# Altium footprint library PcbLib_Acura.PcbLib: 154 footprints (part 5 of 10)
Each footprint in its own frame and in the unit in brackets; x right, y up, seen from the top. Pads: shape width x height; smd on the part's side, far side on the other; paste and mask are expansions set on the pad; w line width, h text height; cw(c..) or ccw(c..) is an arc to the next point about the centre after c.
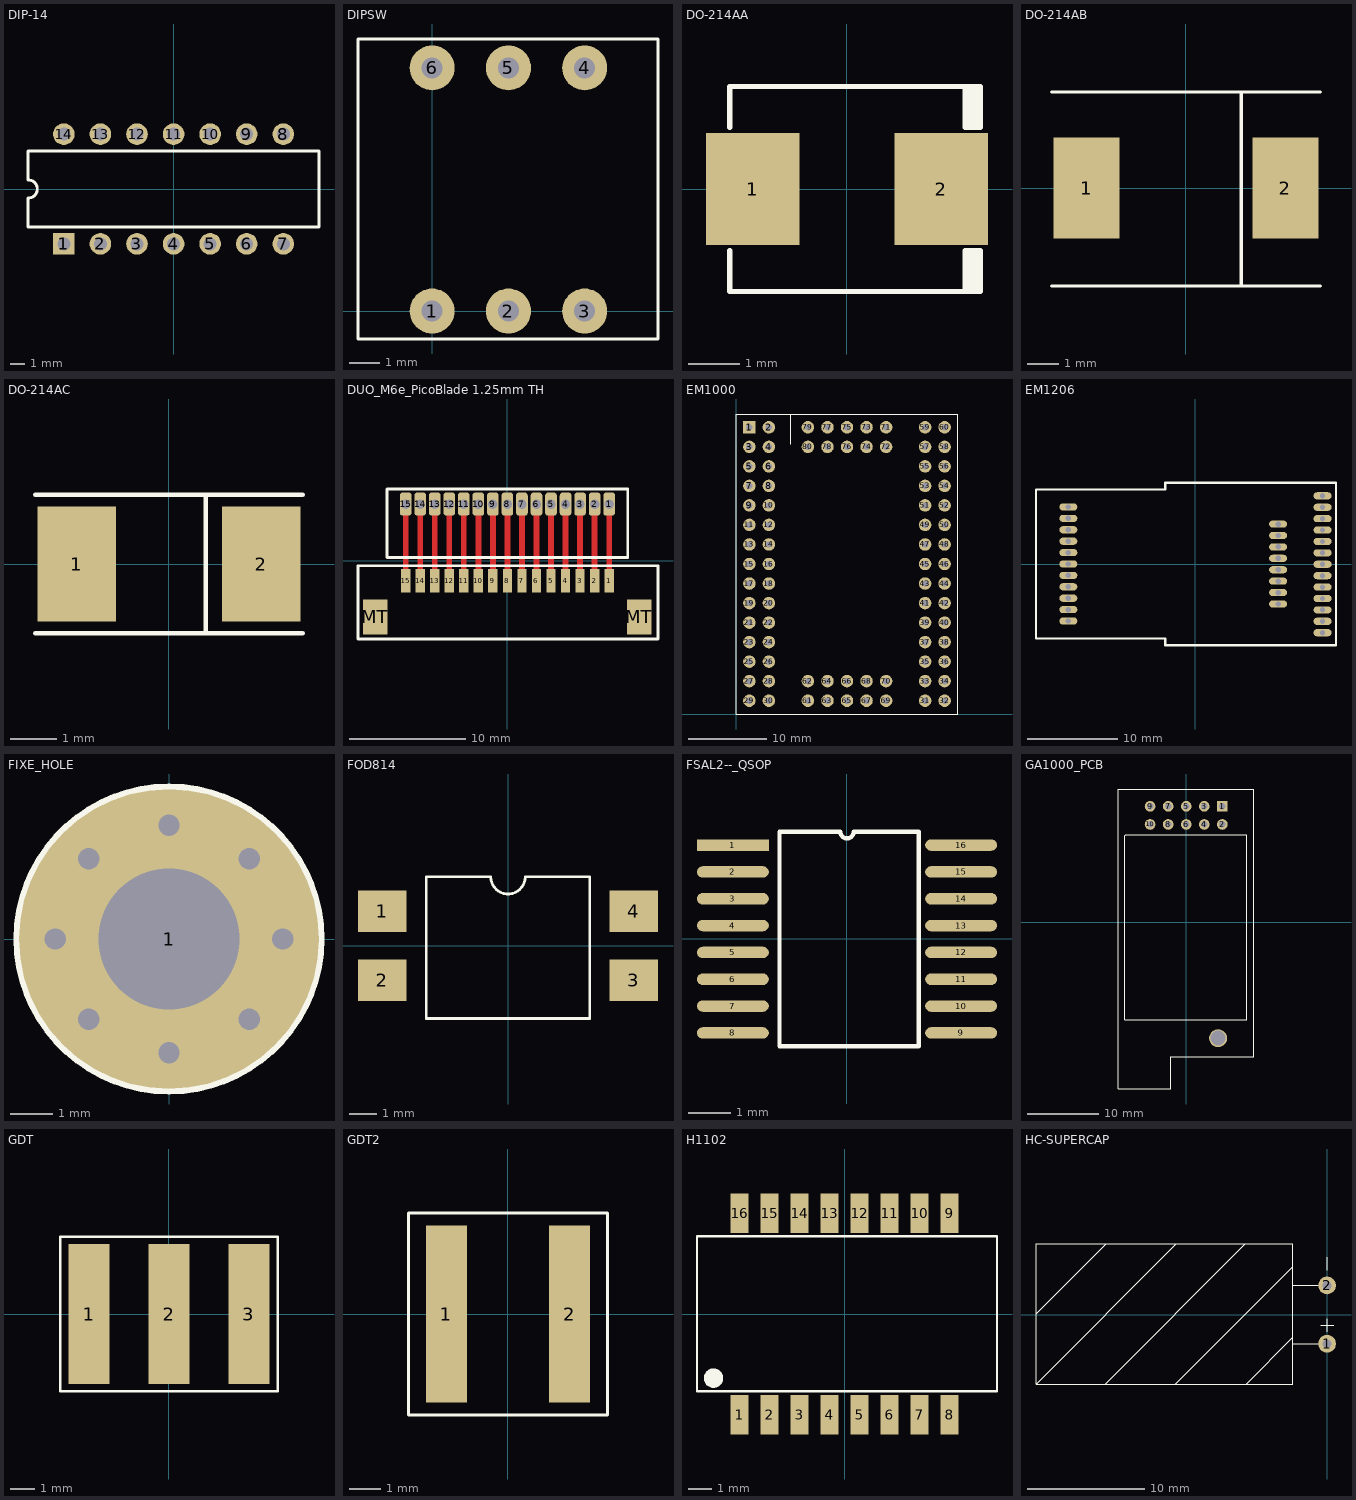
[diagram p4: the footprints below, top view; thin cyan lines are the x and y axes]

## DIP-14 [mm] "DIP; 14 Leads; Row Spacing 7.62 mm; Pitch 2.54 mm"
height 5.08
pads (14):
  rect 1.5x1.5 hole 0.9: 1(-7.62,-3.81)
  round 1.5 hole 0.9: 2(-5.08,-3.81) 3(-2.54,-3.81) 4(0,-3.81) 5(2.54,-3.81) 6(5.08,-3.81) 7(7.62,-3.81) 8(7.62,3.81) 9(5.08,3.81) 10(2.54,3.81) 11(0,3.81) 12(-2.54,3.81) 13(-5.08,3.81) 14(-7.62,3.81)
Top Overlay:
  lines w0.2: -10.1,-2.65 10.1,-2.65 10.1,2.65 -10.1,2.65 -10.1,0.635 cw(c-10.1,0) -10.1,-0.635 -10.1,-2.65

## DIPSW [mm] "Part# 3-5435640-0"
pads (6):
  round 1.5 hole 0.7: 1(0,0) 2(2.54,0) 3(5.08,0) 4(5.08,8.1) 5(2.54,8.1) 6(0,8.1)
Top Overlay:
  lines w0.1: -2.47,-0.93 7.52,-0.93 7.52,9.06 -2.47,9.06 -2.47,-0.93

## DO-214AA [mm]
pads (2):
  rect 1.82x2.18 smd: 1(-1.84,0) 2(1.84,0)
Top Overlay:
  lines w0.1: -2.29,-1.2 -2.29,-2 ; -2.29,1.2 -2.29,2 2.31,2 ; 2.41,-2 2.41,-1.2 ; 2.41,1.2 2.41,2 ; 2.51,-2 2.51,-1.2 ; 2.51,1.2 2.51,2 ; -2.29,-2 -2.29,-2 ; -2.29,-2 2.31,-2 ; 2.31,-2 2.61,-2 2.61,-1.2 2.31,-1.2 2.31,-2 ; 2.31,2 2.61,2 2.61,1.2 2.31,1.2 2.31,2

## DO-214AB [mm]
pads (2):
  rect 2.1x3.2 smd: 1(-3.15,0) 2(3.15,0)
Top Overlay:
  lines w0.1: -4.25,-3.1 4.25,-3.1 ; -4.25,3.05 4.25,3.05 ; 1.75,-3.1 1.75,3.05

## DO-214AC [mm]
pads (2):
  rect 1.7x2.5 smd: 1(-2,0) 2(2,0)
Top Overlay:
  lines w0.1: -2.9,-1.5 2.9,-1.5 ; -2.9,1.5 2.9,1.5 ; 0.8,-1.5 0.8,1.5

## DUO_M6e_PicoBlade 1.25mm TH [mm]
pads (32):
  rect 0.8x2 smd: 1(8.75,-1.75) 2(7.5,-1.75) 3(6.25,-1.75) 4(5,-1.75) 5(3.75,-1.75) 6(2.5,-1.75) 7(1.25,-1.75) 8(0,-1.75) 9(-1.25,-1.75) 10(-2.5,-1.75) 11(-3.75,-1.75) 12(-5,-1.75) 13(-6.25,-1.75) 14(-7.5,-1.75) 15(-8.75,-1.75)
  rrect50% 1x2 hole 0.8: 1(8.75,4.85) 2(7.5,4.85) 3(6.25,4.85) 4(5,4.85) 5(3.75,4.85) 6(2.5,4.85) 7(1.25,4.85) 8(0,4.85) 9(-1.25,4.85) 10(-2.5,4.85) 11(-3.75,4.85) 12(-5,4.85) 13(-6.25,4.85) 14(-7.5,4.85) 15(-8.75,4.85)
  rect 2.1x3 smd: MT(-11.35,-4.85) MT(11.35,-4.85)
Top Layer:
  lines w0.5: -8.75,-1.75 -8.75,4.85 ; -7.5,-1.75 -7.5,4.85 ; -6.25,-1.75 -6.25,4.85 ; -5,-1.75 -5,4.85 ; -3.75,-1.75 -3.75,4.85 ; -2.5,-1.75 -2.5,4.85 ; -1.25,-1.75 -1.25,4.85 ; 0,-1.75 0,4.85 ; 1.25,-1.75 1.25,4.85 ; 2.5,-1.75 2.5,4.85 ; 3.75,-1.75 3.75,4.85 ; 5,-1.75 5,4.85 ; 6.25,-1.75 6.25,4.85 ; 7.5,-1.75 7.5,4.85 ; 8.75,-1.75 8.75,4.85
Top Overlay:
  lines w0.254: -10.35,6.05 -10.35,1.45 -10.35,0.25 -9.55,0.25 10.35,0.25 10.35,6.15 -10.35,6.15 ; -12.85,-6.75 12.75,-6.75 12.95,-6.75 12.95,-0.45 -9.45,-0.45 -12.85,-0.45 -12.85,-6.75

## EM1000 [mm] "Mod Tibbo EM1000 without RJ45"
height 5.5
pads (80):
  rect 1.6x1.6 hole 0.8: 1(1.7,36.7)
  round 1.6 hole 0.8: 2(4.2,36.7) 3(1.7,34.2) 4(4.2,34.2) 5(1.7,31.7) 6(4.2,31.7) 7(1.7,29.2) 8(4.2,29.2) 9(1.7,26.7) 10(4.2,26.7) 11(1.7,24.2) 12(4.2,24.2) 13(1.7,21.7) 14(4.2,21.7) 15(1.7,19.2) 16(4.2,19.2) 17(1.7,16.7) 18(4.2,16.7) 19(1.7,14.2) 20(4.2,14.2) 21(1.7,11.7) 22(4.2,11.7) 23(1.7,9.2) 24(4.2,9.2) 25(1.7,6.7) 26(4.2,6.7) 27(1.7,4.2) 28(4.2,4.2) 29(1.7,1.7) 30(4.2,1.7) 31(24.2,1.7) 32(26.7,1.7) 33(24.2,4.2) 34(26.7,4.2) 35(24.2,6.7) 36(26.7,6.7) 37(24.2,9.2) 38(26.7,9.2) 39(24.2,11.7) 40(26.7,11.7) 41(24.2,14.2) 42(26.7,14.2) 43(24.2,16.7) 44(26.7,16.7) 45(24.2,19.2) 46(26.7,19.2) 47(24.2,21.7) 48(26.7,21.7) 49(24.2,24.2) 50(26.7,24.2) 51(24.2,26.7) 52(26.7,26.7) 53(24.2,29.2) 54(26.7,29.2) 55(24.2,31.7) 56(26.7,31.7) 57(24.2,34.2) 58(26.7,34.2) 59(24.2,36.7) 60(26.7,36.7) 61(9.2,1.7) 62(9.2,4.2) 63(11.7,1.7) 64(11.7,4.2) 65(14.2,1.7) 66(14.2,4.2) 67(16.7,1.7) 68(16.7,4.2) 69(19.2,1.7) 70(19.2,4.2) 71(19.2,36.7) 72(19.2,34.2) 73(16.7,36.7) 74(16.7,34.2) 75(14.2,36.7) 76(14.2,34.2) 77(11.7,36.7) 78(11.7,34.2) 79(9.2,36.7) 80(9.2,34.2)
Top Overlay:
  lines w0.1: 7,34.5 7,38.4 ; 0,0 28.4,0 28.4,38.4 0,38.4 0,0

## EM1206 [mm] "BASIC-programmable embedded module"
height 5
pads (32):
  oval 2x0.8 hole 0.6: 1A(14.15,7.62) 1B(-14.15,6.38) 1C(9.2,4.47) 2A(14.15,6.35) 2B(-14.15,5.11) 2C(9.2,3.2) 3A(14.15,5.08) 3B(-14.15,3.84) 3C(9.2,1.93) 4A(14.15,3.81) 4B(-14.15,2.57) 4C(9.2,0.66) 5A(14.15,2.54) 5B(-14.15,1.3) 5C(9.2,-0.61) 6A(14.15,1.27) 6B(-14.15,0.03) 6C(9.2,-1.88) 7A(14.15,0) 7B(-14.15,-1.24) 7C(9.2,-3.15) 8A(14.15,-1.27) 8B(-14.15,-2.51) 8C(9.2,-4.42) 9A(14.15,-2.54) 9B(-14.15,-3.78) 10A(14.15,-3.81) 10B(-14.15,-5.05) 11A(14.15,-5.08) 11B(-14.15,-6.32) 12A(14.15,-6.35) 13A(14.15,-7.62)
Top Overlay:
  lines w0.254: -17.75,-8.27 -17.75,8.33 -3.35,8.33 -3.35,9.08 15.65,9.08 15.65,-9.02 -3.35,-9.02 -3.35,-8.27 -17.75,-8.27

## FIXE_HOLE [mm]
pads (1):
  round 7 hole 3.3: 1(0,0)
via 0,-2.65 diameter 0.711 hole 0.5
via 0,2.65 diameter 0.711 hole 0.5
via -1.874,-1.874 diameter 0.711 hole 0.5
via -1.874,1.874 diameter 0.711 hole 0.5
via 1.876,-1.874 diameter 0.711 hole 0.5
via 1.876,1.874 diameter 0.711 hole 0.5
via -2.65,0 diameter 0.711 hole 0.5
via 2.65,0 diameter 0.711 hole 0.5
Top Overlay:
  circle w0.254: c0,0 r3.5
Bottom Overlay:
  circle w0.254: c0,0 r3.5

## FOD814 [mm]
pads (4):
  rect 1.78x1.52 smd: 1(-4.635,1.27) 2(-4.635,-1.27) 3(4.635,-1.27) 4(4.635,1.27)
Top Overlay:
  lines w0.1: -3.01,-2.68 -3.01,2.54 -0.635,2.54 ccw(c0,2.54) 0.635,2.54 3.01,2.54 3.01,-2.68 -3.01,-2.68

## FSAL2--_QSOP [mm]
pads (16):
  rect 1.7x0.27 smd: 1(-2.7,2.222)
  oval 1.7x0.27 smd: 2(-2.7,1.587) 3(-2.7,0.953) 4(-2.7,0.318) 5(-2.7,-0.318) 6(-2.7,-0.953) 7(-2.7,-1.587) 8(-2.7,-2.222) 9(2.7,-2.222) 10(2.7,-1.587) 11(2.7,-0.953) 12(2.7,-0.318) 13(2.7,0.318) 14(2.7,0.953) 15(2.7,1.587) 16(2.7,2.222)
Top Overlay:
  lines w0.1: -1.6,-2.54 1.7,-2.54 1.7,2.54 0.159,2.54 cw(c0,2.54) -0.159,2.54 -1.6,2.54 -1.6,-2.54

## GA1000_PCB [mm]
pads (11):
  rect 1.5x1.5 hole 0.9: 1(5.08,16.3)
  round 1.5 hole 0.9: 2(5.08,13.76) 3(2.54,16.3) 4(2.54,13.76) 5(0,16.3) 6(0,13.76) 7(-2.54,16.3) 8(-2.54,13.76) 9(-5.08,16.3) 10(-5.08,13.76)
  round 2.524 hole 2.1: ""(4.48,-16.3)
Top Overlay:
  lines w0.1: -9.58,-23.44 -2.18,-23.44 -2.18,-18.94 9.52,-18.94 9.52,18.72 9.5,18.74 -9.58,18.74 -9.58,-23.44 ; -8.62,-13.7 -8.62,12.2 -8.52,12.3 8.48,12.3 8.48,-13.7 -8.62,-13.7

## GDT [mm] "Gas Discharge Tube"
pads (3):
  rect 1.7x5.8 smd: 1(-3.3,0) 2(0,0) 3(3.3,0)
Top Overlay:
  lines w0.1: -4.5,-3.2 4.5,-3.2 4.5,3.2 -4.5,3.2 -4.5,-3.2

## GDT2 [mm] "Gas Discharge Tube"
pads (2):
  rect 1.3x5.6 smd: 1(-1.95,0) 2(1.95,0)
Top Overlay:
  lines w0.1: -3.15,-3.2 -3.15,3.2 3.155,3.2 3.155,-3.2 -3.15,-3.2

## H1102 [mm]
pads (16):
  rect 0.76x1.67 smd: 1(-4.445,-4.265) 2(-3.175,-4.265) 3(-1.905,-4.265) 4(-0.635,-4.265) 5(0.635,-4.265) 6(1.905,-4.265) 7(3.175,-4.265) 8(4.445,-4.265) 9(4.445,4.265) 10(3.175,4.265) 11(1.905,4.265) 12(0.635,4.265) 13(-0.635,4.265) 14(-1.905,4.265) 15(-3.175,4.265) 16(-4.445,4.265)
Top Overlay:
  circle w0.254: c-5.545,-2.715 r0.141
  circle w0.254: c-5.545,-2.715 r0.283
  lines w0.1: -6.245,-3.265 6.455,-3.265 6.455,3.285 -6.245,3.285 -6.245,-3.265

## HC-SUPERCAP [mil]
pads (2):
  round 60 hole 30: 1(0,-98.43) 2(0,98.43)
Top Overlay:
  lines w3.94: -982.28,1.97 -746.06,238.19 ; -748.03,-234.25 -275.59,238.19 ; -511.81,-234.25 -117.13,160.43 ; -509.84,238.19 -982.28,-234.25 ; -273.62,-234.25 -116.14,-76.77 ; -116.14,-98.43 0,-98.43 ; -114.17,98.43 0,98.43 ; -21.65,-35.43 21.65,-35.43 ; 0,-57.09 0,-13.78 ; 0,149.61 0,192.91 ; -982.28,-234.25 -982.28,238.19 -116.14,238.19 -116.14,-234.25 -982.28,-234.25